# Altium footprint library Relay_Coil.PcbLib: 1 footprints
Each footprint in its own frame and in the unit in brackets; x right, y up, seen from the top. Pads: shape width x height; smd on the part's side, far side on the other; paste and mask are expansions set on the pad; w line width, h text height; cw(c..) or ccw(c..) is an arc to the next point about the centre after c.
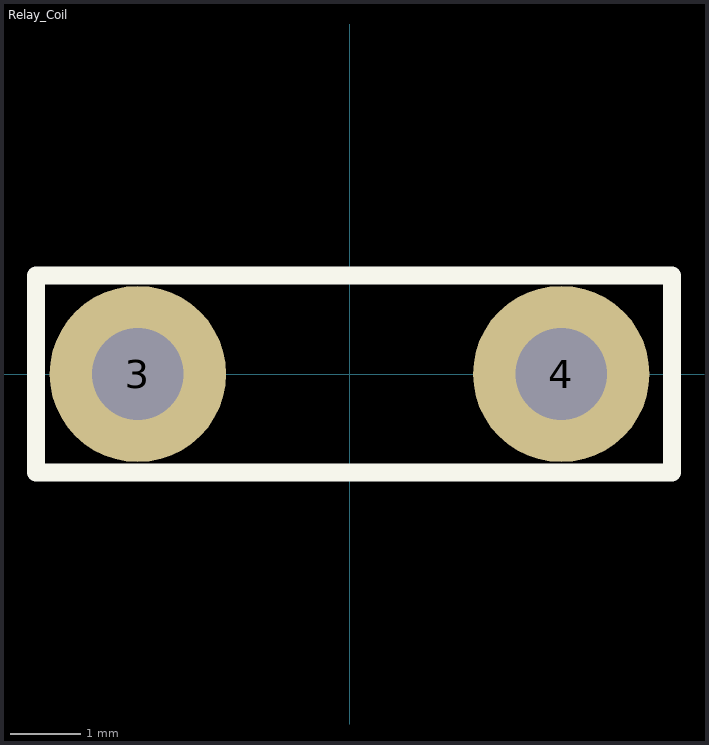
[diagram p0: the footprint, top view; thin cyan lines are the x and y axes]

## Relay_Coil [mm]
pads (2):
  round 2.5 hole 1.3: 3(-3,0) 4(3,0)
Top Overlay:
  lines w0.254: -4.445,-1.397 4.572,-1.397 4.572,1.397 -4.445,1.397 -4.445,-1.397
Bottom Overlay:
  lines w0.254: -4.445,-1.397 -4.445,1.397 4.572,1.397 4.572,-1.397 -4.445,-1.397